# Altium footprint library bourns_sm91502.PcbLib: 1 footprints
Each footprint in its own frame and in the unit in brackets; x right, y up, seen from the top. Pads: shape width x height; smd on the part's side, far side on the other; paste and mask are expansions set on the pad; w line width, h text height; cw(c..) or ccw(c..) is an arc to the next point about the centre after c.
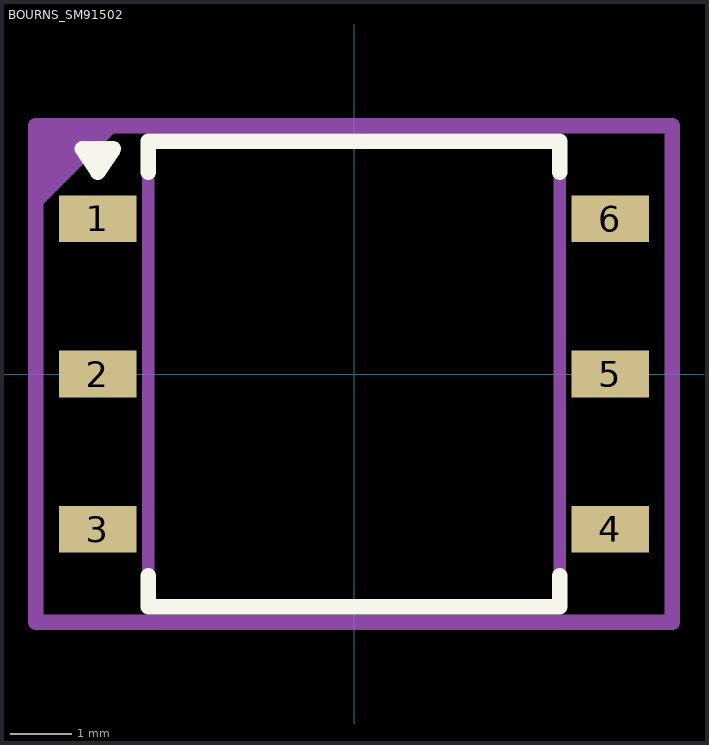
[diagram p0: the footprint, top view; thin cyan lines are the x and y axes]

## BOURNS_SM91502 [mil]
height 225
pads (6):
  rect 50x30 smd: 1(-165,100) 2(-165,0) 3(-165,-100) 4(165,-100) 5(165,0) 6(165,100)
Top Overlay:
  region: -165,130 -175,145 -155,145
  lines w10: -132.5,-130.01 -132.5,-150.01 132.49,-150 132.49,-130.01 ; -132.5,130 -132.5,150 132.49,150 132.49,130 ; -175,145 -165,130 -155,145 -175,145
Top 3D Body:
  lines w7.87: -132.5,-150 -132.5,150 132.49,150 132.49,-150 -132.5,-150
Top Courtyard:
  region: -205,160 -150,160 -205,105
  lines w10: -205,-160 205,-160 205,160 -205,160 -205,-160
Top Designator:
  text ".Designator" at -54.09,-6.22 h23.62
3D body: height 225, standoff 0, extent -132.5,-150 132.49,150